# Altium footprint library MOLEX_462070012.PcbLib: 1 footprints
Each footprint in its own frame and in the unit in brackets; x right, y up, seen from the top. Pads: shape width x height; smd on the part's side, far side on the other; paste and mask are expansions set on the pad; w line width, h text height; cw(c..) or ccw(c..) is an arc to the next point about the centre after c.
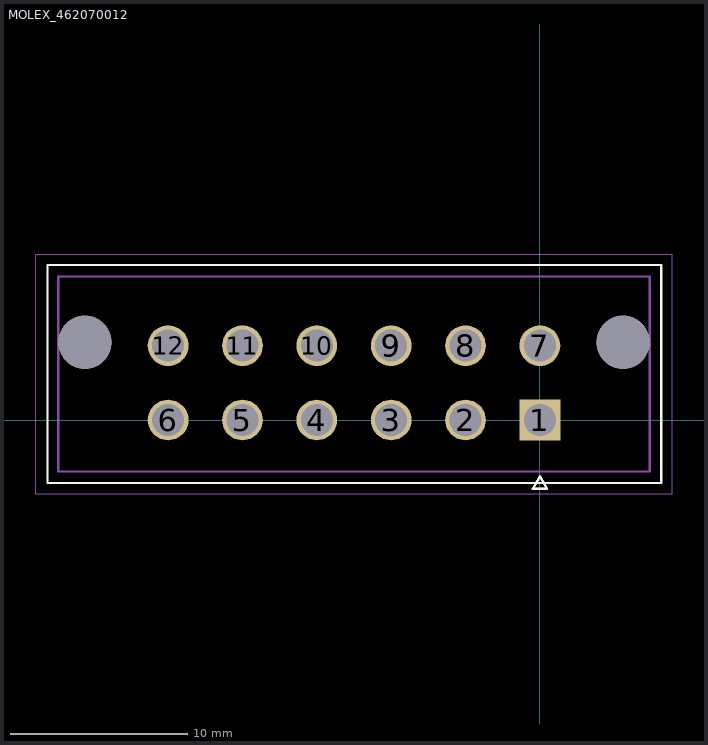
[diagram p0: the footprint, top view; thin cyan lines are the x and y axes]

## MOLEX_462070012 [mm]
height 13.6
pads (14):
  rect 2.3x2.3 hole 1.8 mask+0.076: 1(0,0)
  round 2.3 hole 1.8 mask+0.076: 2(-4.2,0) 3(-8.4,0) 4(-12.6,0) 5(-16.8,0) 6(-21,0) 7(0,4.2) 8(-4.2,4.2) 9(-8.4,4.2) 10(-12.6,4.2) 11(-16.8,4.2) 12(-21,4.2)
  round 3 hole 3 unplated mask+0.076: ""(-25.7,4.391) ""(4.7,4.391)
Top Overlay:
  lines w0.127: -27.813,-3.556 -27.813,2.565 -27.813,8.763 6.858,8.763 6.858,2.565 6.858,-3.556 -27.813,-3.556 ; -0.4,-3.877 0,-3.177 0.4,-3.877 -0.4,-3.877
Mechanical 13:
  lines w0.127: -27.2,-2.9 6.2,-2.9 6.2,8.1 -27.2,8.1 -27.2,-2.9 ; -0.4,-3.877 0.4,-3.877 0,-3.177 -0.4,-3.877
Mechanical 15:
  lines w0.05: -28.47,-4.17 7.47,-4.17 7.47,9.37 -28.47,9.37 -28.47,-4.17
3D body "462070012.stp": height 13.66, standoff -3.6, extent -27.236,-2.833 6.223,8.167